# Altium integrated library Capacitor 10uF.IntLib: 1 symbol
Pins are listed as number, name and electrical type; pins without a type are passive.

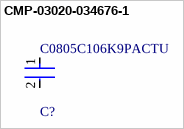
[diagram p0: symbol CMP-03020-034676-1]

## CMP-03020-034676-1
designator C?, comment C0805C106K9PACTU
CAP CER 10UF 6.3V X5R 0805; Dielectric Material: Ceramic; Dissipation Factor: 5%; Tolerance: 10%; Capacitance: 10uF; Thickness: 0.055inch; Mount: Surface Mount; Voltage: 6.3V; Case Code (Imperial): 0805; Lead Pitch: 0.75mm; Height: 1.25mm; Construction: Flat; Number of Pins: 2; Contact Material: Tin; Case/Package: 0805; Case Code (Metric): 2012; Termination: SMD/SMT; Width: 1.2mm; Dielectric: X5R; Lead Free: Lead Free; Min Operating Temperature: -55°C; Voltage Rating (DC): 6.3V; Series: C; Packaging: Tape and Reel; Radiation Hardening: No; Length: 2mm; REACH SVHC: No SVHC; RoHS Compliant: Yes; Max Operating Temperature: 85°C; Package Quantity: 1; Voltage Rating: 6.3V; Depth: 1.25mm
footprint FP-C0805C106K9PACTU-IPC_B
footprint FP-C0805C106K9PACTU-IPC_A
footprint FP-C0805C106K9PACTU-IPC_C
footprint FP-C0805C106K9PACTU-MFG
pins: 1, 2